# EAGLE library part ADV7611WBSWZ (library My_Library)
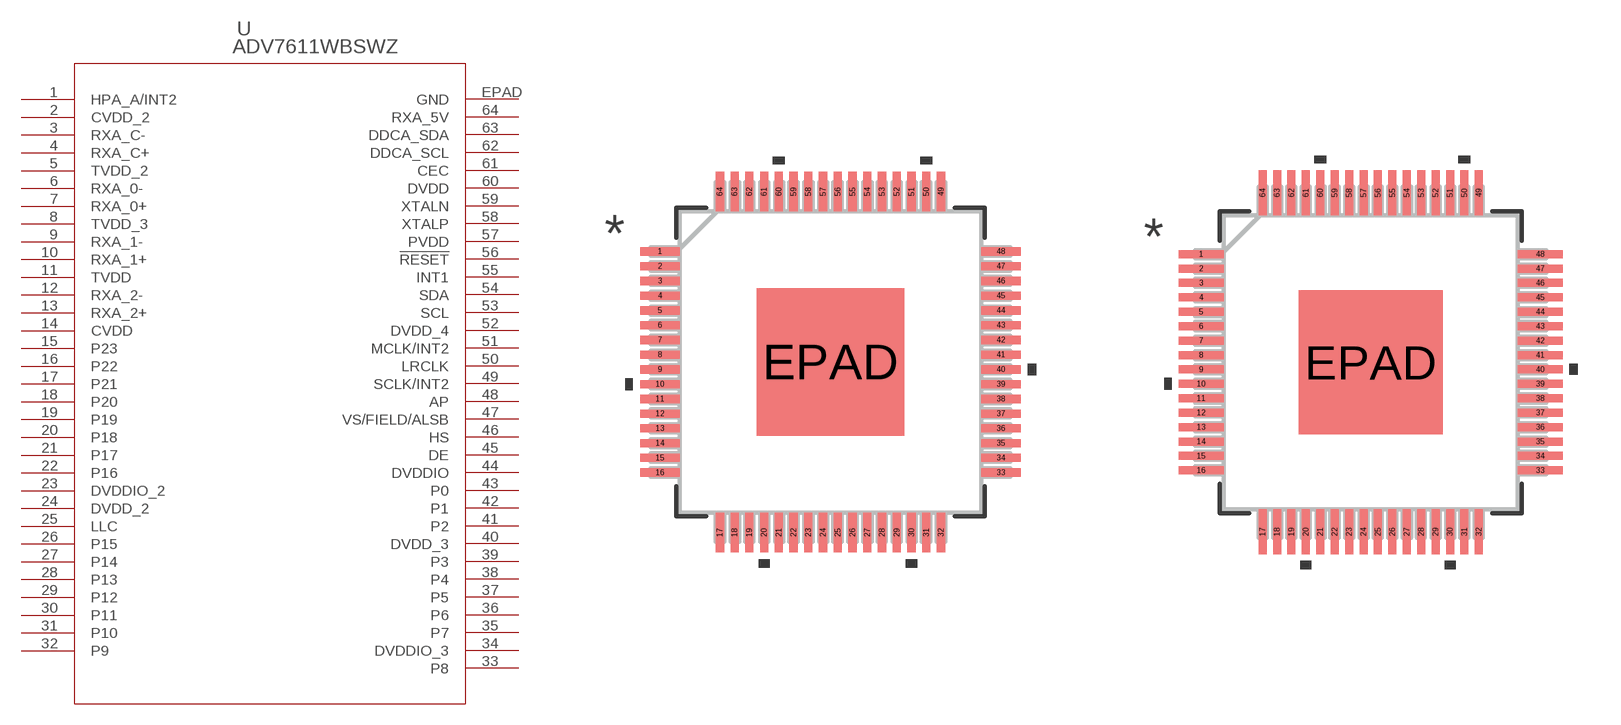
[diagram p35: symbol with the pads of SW-64-2_ADI; footprints SW-64-2_ADI, SW-64-2_ADI-M]

Designator prefix U

## ADV7611WBSWZ (COPYRIGHT: Copyright (C) 2025 Ultra Librarian. All rights reserved.; MANUFACTURER_PART_NUMBER: ADV7611WBSWZ; MFR_NAME: Analog Devices Inc; TYPE: Linear)  [SW-64-2_ADI]
1  HPA_A/INT2  out
2  CVDD_2  pwr
3  RXA_C-  in
4  RXA_C+  in
5  TVDD_2  pwr
6  RXA_0-  in
7  RXA_0+  in
8  TVDD_3  pwr
9  RXA_1-  in
10  RXA_1+  in
11  TVDD  pwr
12  RXA_2-  in
13  RXA_2+  in
14  CVDD  pwr
15  P23  out
16  P22  out
17  P21  out
18  P20  out
19  P19  out
20  P18  out
21  P17  out
22  P16  out
23  DVDDIO_2  pwr
24  DVDD_2  pwr
25  LLC  out
26  P15  out
27  P14  out
28  P13  out
29  P12  out
30  P11  out
31  P10  out
32  P9  out
33  P8  out
34  DVDDIO_3  pwr
35  P7  out
36  P6  out
37  P5  out
38  P4  out
39  P3  out
40  DVDD_3  pwr
41  P2  out
42  P1  out
43  P0  out
44  DVDDIO  pwr
45  DE  in
46  HS  out
47  VS/FIELD/ALSB
48  AP  out
49  SCLK/INT2  out
50  LRCLK  pas
51  MCLK/INT2  out
52  DVDD_4  pwr
53  SCL  in
54  SDA
55  INT1  out
56  !RESET  in
57  PVDD  pwr
58  XTALP  pas
59  XTALN  pas
60  DVDD  pwr
61  CEC
62  DDCA_SCL  in
63  DDCA_SDA  in
64  RXA_5V  in
EPAD  GND  pas

## ADV7611WBSWZSW-64-2_ADI-M (COPYRIGHT: Copyright (C) 2025 Ultra Librarian. All rights reserved.; MANUFACTURER_PART_NUMBER: ADV7611WBSWZ; MFR_NAME: Analog Devices Inc; TYPE: Linear)  [SW-64-2_ADI-M]
Pads as for SW-64-2_ADI

## ADV7611WBSWZSW-64-2_ADI-L (COPYRIGHT: Copyright (C) 2025 Ultra Librarian. All rights reserved.; MANUFACTURER_PART_NUMBER: ADV7611WBSWZ; MFR_NAME: Analog Devices Inc; TYPE: Linear)  [SW-64-2_ADI-L]
Pads as for SW-64-2_ADI

## Footprint SW-64-2_ADI (pad centres in mm)
smd 1.346 x 0.279: 1 -5.779,3.75; 2 -5.779,3.25; 3 -5.779,2.75; 4 -5.779,2.25; 5 -5.779,1.75; 6 -5.779,1.25; 7 -5.779,0.75; 8 -5.779,0.25; 9 -5.779,-0.25; 10 -5.779,-0.75; 11 -5.779,-1.25; 12 -5.779,-1.75; 13 -5.779,-2.25; 14 -5.779,-2.75; 15 -5.779,-3.25; 16 -5.779,-3.75; 33 5.779,-3.75; 34 5.779,-3.25; 35 5.779,-2.75; 36 5.779,-2.25; 37 5.779,-1.75; 38 5.779,-1.25; 39 5.779,-0.75; 40 5.779,-0.25; 41 5.779,0.25; 42 5.779,0.75; 43 5.779,1.25; 44 5.779,1.75; 45 5.779,2.25; 46 5.779,2.75; 47 5.779,3.25; 48 5.779,3.75
smd 0.279 x 1.346: 17 -3.75,-5.779; 18 -3.25,-5.779; 19 -2.75,-5.779; 20 -2.25,-5.779; 21 -1.75,-5.779; 22 -1.25,-5.779; 23 -0.75,-5.779; 24 -0.25,-5.779; 25 0.25,-5.779; 26 0.75,-5.779; 27 1.25,-5.779; 28 1.75,-5.779; 29 2.25,-5.779; 30 2.75,-5.779; 31 3.25,-5.779; 32 3.75,-5.779; 49 3.75,5.779; 50 3.25,5.779; 51 2.75,5.779; 52 2.25,5.779; 53 1.75,5.779; 54 1.25,5.779; 55 0.75,5.779; 56 0.25,5.779; 57 -0.25,5.779; 58 -0.75,5.779; 59 -1.25,5.779; 60 -1.75,5.779; 61 -2.25,5.779; 62 -2.75,5.779; 63 -3.25,5.779; 64 -3.75,5.779
smd 5.004 x 5.004: EPAD 0,0

## Footprint SW-64-2_ADI-M (pad centres in mm)
smd 1.549 x 0.279: 1 -5.88,3.75; 2 -5.88,3.25; 3 -5.88,2.75; 4 -5.88,2.25; 5 -5.88,1.75; 6 -5.88,1.25; 7 -5.88,0.75; 8 -5.88,0.25; 9 -5.88,-0.25; 10 -5.88,-0.75; 11 -5.88,-1.25; 12 -5.88,-1.75; 13 -5.88,-2.25; 14 -5.88,-2.75; 15 -5.88,-3.25; 16 -5.88,-3.75; 33 5.88,-3.75; 34 5.88,-3.25; 35 5.88,-2.75; 36 5.88,-2.25; 37 5.88,-1.75; 38 5.88,-1.25; 39 5.88,-0.75; 40 5.88,-0.25; 41 5.88,0.25; 42 5.88,0.75; 43 5.88,1.25; 44 5.88,1.75; 45 5.88,2.25; 46 5.88,2.75; 47 5.88,3.25; 48 5.88,3.75
smd 0.279 x 1.549: 17 -3.75,-5.88; 18 -3.25,-5.88; 19 -2.75,-5.88; 20 -2.25,-5.88; 21 -1.75,-5.88; 22 -1.25,-5.88; 23 -0.75,-5.88; 24 -0.25,-5.88; 25 0.25,-5.88; 26 0.75,-5.88; 27 1.25,-5.88; 28 1.75,-5.88; 29 2.25,-5.88; 30 2.75,-5.88; 31 3.25,-5.88; 32 3.75,-5.88; 49 3.75,5.88; 50 3.25,5.88; 51 2.75,5.88; 52 2.25,5.88; 53 1.75,5.88; 54 1.25,5.88; 55 0.75,5.88; 56 0.25,5.88; 57 -0.25,5.88; 58 -0.75,5.88; 59 -1.25,5.88; 60 -1.75,5.88; 61 -2.25,5.88; 62 -2.75,5.88; 63 -3.25,5.88; 64 -3.75,5.88
smd 5.004 x 5.004: EPAD 0,0

## Footprint SW-64-2_ADI-L (pad centres in mm)
smd 1.143 x 0.229: 1 -5.677,3.75; 2 -5.677,3.25; 3 -5.677,2.75; 4 -5.677,2.25; 5 -5.677,1.75; 6 -5.677,1.25; 7 -5.677,0.75; 8 -5.677,0.25; 9 -5.677,-0.25; 10 -5.677,-0.75; 11 -5.677,-1.25; 12 -5.677,-1.75; 13 -5.677,-2.25; 14 -5.677,-2.75; 15 -5.677,-3.25; 16 -5.677,-3.75; 33 5.677,-3.75; 34 5.677,-3.25; 35 5.677,-2.75; 36 5.677,-2.25; 37 5.677,-1.75; 38 5.677,-1.25; 39 5.677,-0.75; 40 5.677,-0.25; 41 5.677,0.25; 42 5.677,0.75; 43 5.677,1.25; 44 5.677,1.75; 45 5.677,2.25; 46 5.677,2.75; 47 5.677,3.25; 48 5.677,3.75
smd 0.229 x 1.143: 17 -3.75,-5.677; 18 -3.25,-5.677; 19 -2.75,-5.677; 20 -2.25,-5.677; 21 -1.75,-5.677; 22 -1.25,-5.677; 23 -0.75,-5.677; 24 -0.25,-5.677; 25 0.25,-5.677; 26 0.75,-5.677; 27 1.25,-5.677; 28 1.75,-5.677; 29 2.25,-5.677; 30 2.75,-5.677; 31 3.25,-5.677; 32 3.75,-5.677; 49 3.75,5.677; 50 3.25,5.677; 51 2.75,5.677; 52 2.25,5.677; 53 1.75,5.677; 54 1.25,5.677; 55 0.75,5.677; 56 0.25,5.677; 57 -0.25,5.677; 58 -0.75,5.677; 59 -1.25,5.677; 60 -1.75,5.677; 61 -2.25,5.677; 62 -2.75,5.677; 63 -3.25,5.677; 64 -3.75,5.677
smd 5.004 x 5.004: EPAD 0,0